# Altium schematic symbol library Schematics_IC.SchLib: 5 symbols
Pins are listed as number, name and electrical type; pins without a type are passive.

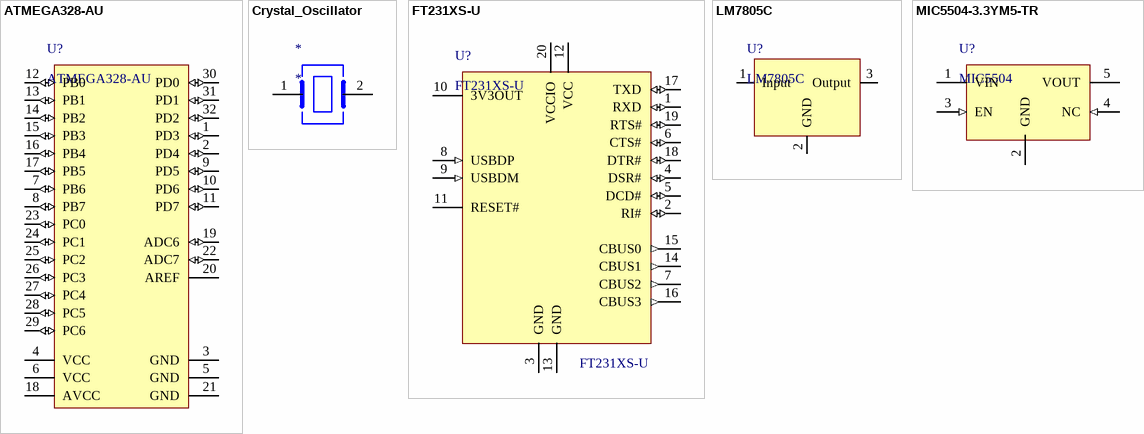
[diagram p0: symbols ATMEGA328-AU to MIC5504-3.3YM5-TR]

## ATMEGA328-AU
designator U?
MCU AVR 32K FLSH, 1K EE 2K SRAM - 20 MHz; ComponentLink1Description: Mouser; ComponentLink1URL: https://cz.mouser.com/ProductDetail/Microchip-Technology/ATMEGA328-AU?qs=lwdSMh1%2FoYJRHuGBjWz9Pg%3D%3D; ComponentLink2Description: Datasheet; ComponentLink2URL: https://cz.mouser.com/datasheet/2/268/ATmega48A_PA_88A_PA_168A_PA_328_P_DS_DS40002061B-3050139.pdf; Manufacturer: ATMEGA328-AU
footprint TQFP-32
pins: 1 PD3 (io), 2 PD4 (io), 3 GND (power), 4 VCC (power), 5 GND (power), 6 VCC (power), 7 PB6 (io), 8 PB7 (io), 9 PD5 (io), 10 PD6 (io), 11 PD7 (io), 12 PB0 (io), 13 PB1 (io), 14 PB2 (io), 15 PB3 (io), 16 PB4 (io), 17 PB5 (io), 18 AVCC (power), 19 ADC6 (io), 20 AREF (power), 21 GND (power), 22 ADC7 (io), 23 PC0 (io), 24 PC1 (io), 25 PC2 (io), 26 PC3 (io), 27 PC4 (io), 28 PC5 (io), 29 PC6 (io), 30 PD0 (io), 31 PD1 (io), 32 PD2 (io)

## Crystal_Oscillator
designator *
footprint CrystalOscillator (Crystal Oscillator THT)
pins: 1, 2

## FT231XS-U
designator U?
USB to UART; ComponentLink1Description: Mouser; ComponentLink1URL: https://cz.mouser.com/ProductDetail/FTDI/FT231XS-U?qs=Gp1Yz1mis3WFP7tMtj2Z9g%3D%3D; ComponentLink2Description: Datasheet; ComponentLink2URL: https://cz.mouser.com/datasheet/2/163/DS_FT231X-13571.pdf; Manufacturer Part: FT231XS-U
footprint SSOP-20
pins: 1 RXD (io), 2 RI# (io), 3 GND (power), 4 DSR# (io), 5 DCD# (io), 6 CTS# (io), 7 CBUS2 (out), 8 USBDP (in), 9 USBDM (in), 10 3V3OUT (power), 11 RESET# (power), 12 VCC (power), 13 GND (power), 14 CBUS1 (out), 15 CBUS0 (out), 16 CBUS3 (out), 17 TXD (io), 18 DTR# (io), 19 RTS# (io), 20 VCCIO (power)

## LM7805C
designator U?
footprint LM7805C
pins: 1 Input (power), 2 GND (power), 3 Output (power)

## MIC5504-3.3YM5-TR
designator U?, comment MIC5504
LDO regulator 3.3V; Manufacturer Part: MIC5504-3.3YM5-TR; ComponentLink1Description: Mouser; ComponentLink1URL: https://cz.mouser.com/ProductDetail/Microchip-Technology/MIC5504-3.3YM5-TR?qs=U6T8BxXiZAUmVQ5Zs217qQ%3D%3D; ComponentLink2Description: Datasheet; ComponentLink2URL: https://cz.mouser.com/datasheet/2/268/MIC550X-1082389.pdf
footprint SOT-23-5
pins: 1 VIN (power), 2 GND (power), 3 EN (in), 4 NC (in), 5 VOUT (power)